# Altium schematic symbol library Other-TMP102AIDRLR.SchLib: 1 symbol
Pins are listed as number, name and electrical type; pins without a type are passive.

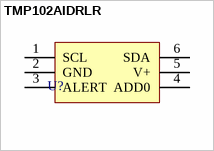
[diagram p0: symbol TMP102AIDRLR]

## TMP102AIDRLR
designator U?  (no BOM)
pins: 1 SCL, 2 GND, 3 ALERT, 4 ADD0, 5 V+, 6 SDA